# EAGLE library part BR-SC30A (library blueradio-br-sc30a)
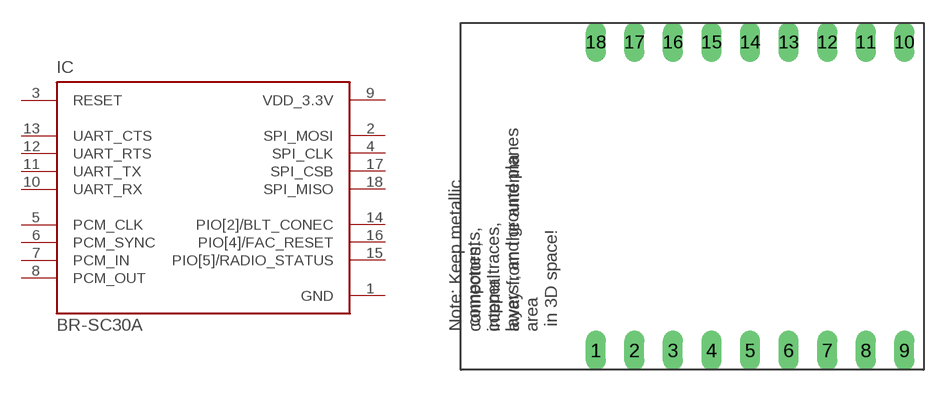
[diagram p0: symbol with the pads of 18PIN_DIP_THROUGH-HOLE; footprint 18PIN_DIP_THROUGH-HOLE]

Designator prefix IC

## BR-SC30A  [18PIN_DIP_THROUGH-HOLE]
1  GND  pwr
2  SPI_MOSI
3  RESET  in
4  SPI_CLK  in
5  PCM_CLK  in
6  PCM_SYNC  in
7  PCM_IN  in
8  PCM_OUT  out
9  VDD_3.3V  pwr
10  UART_RX  out
11  UART_TX  in
12  UART_RTS  in
13  UART_CTS  in
14  PIO[2]/BLT_CONEC
15  PIO[5]/RADIO_STATUS
16  PIO[4]/FAC_RESET
17  SPI_CSB
18  SPI_MISO

## Footprint 18PIN_DIP_THROUGH-HOLE (pad centres in mm)
drill 0.8 long: 1 -10.16,-10.16; 2 -7.62,-10.16; 3 -5.08,-10.16; 4 -2.54,-10.16; 5 0,-10.16; 6 2.54,-10.16; 7 5.08,-10.16; 8 7.62,-10.16; 9 10.16,-10.16; 10 10.16,10.16; 11 7.62,10.16; 12 5.08,10.16; 13 2.54,10.16; 14 0,10.16; 15 -2.54,10.16; 16 -5.08,10.16; 17 -7.62,10.16; 18 -10.16,10.16